# Altium footprint library ultrazohm_digital_voltage_3U_1vxx.PcbLib: 16 footprints
Each footprint in its own frame and in the unit in brackets; x right, y up, seen from the top. Pads: shape width x height; smd on the part's side, far side on the other; paste and mask are expansions set on the pad; w line width, h text height; cw(c..) or ccw(c..) is an arc to the next point about the centre after c.
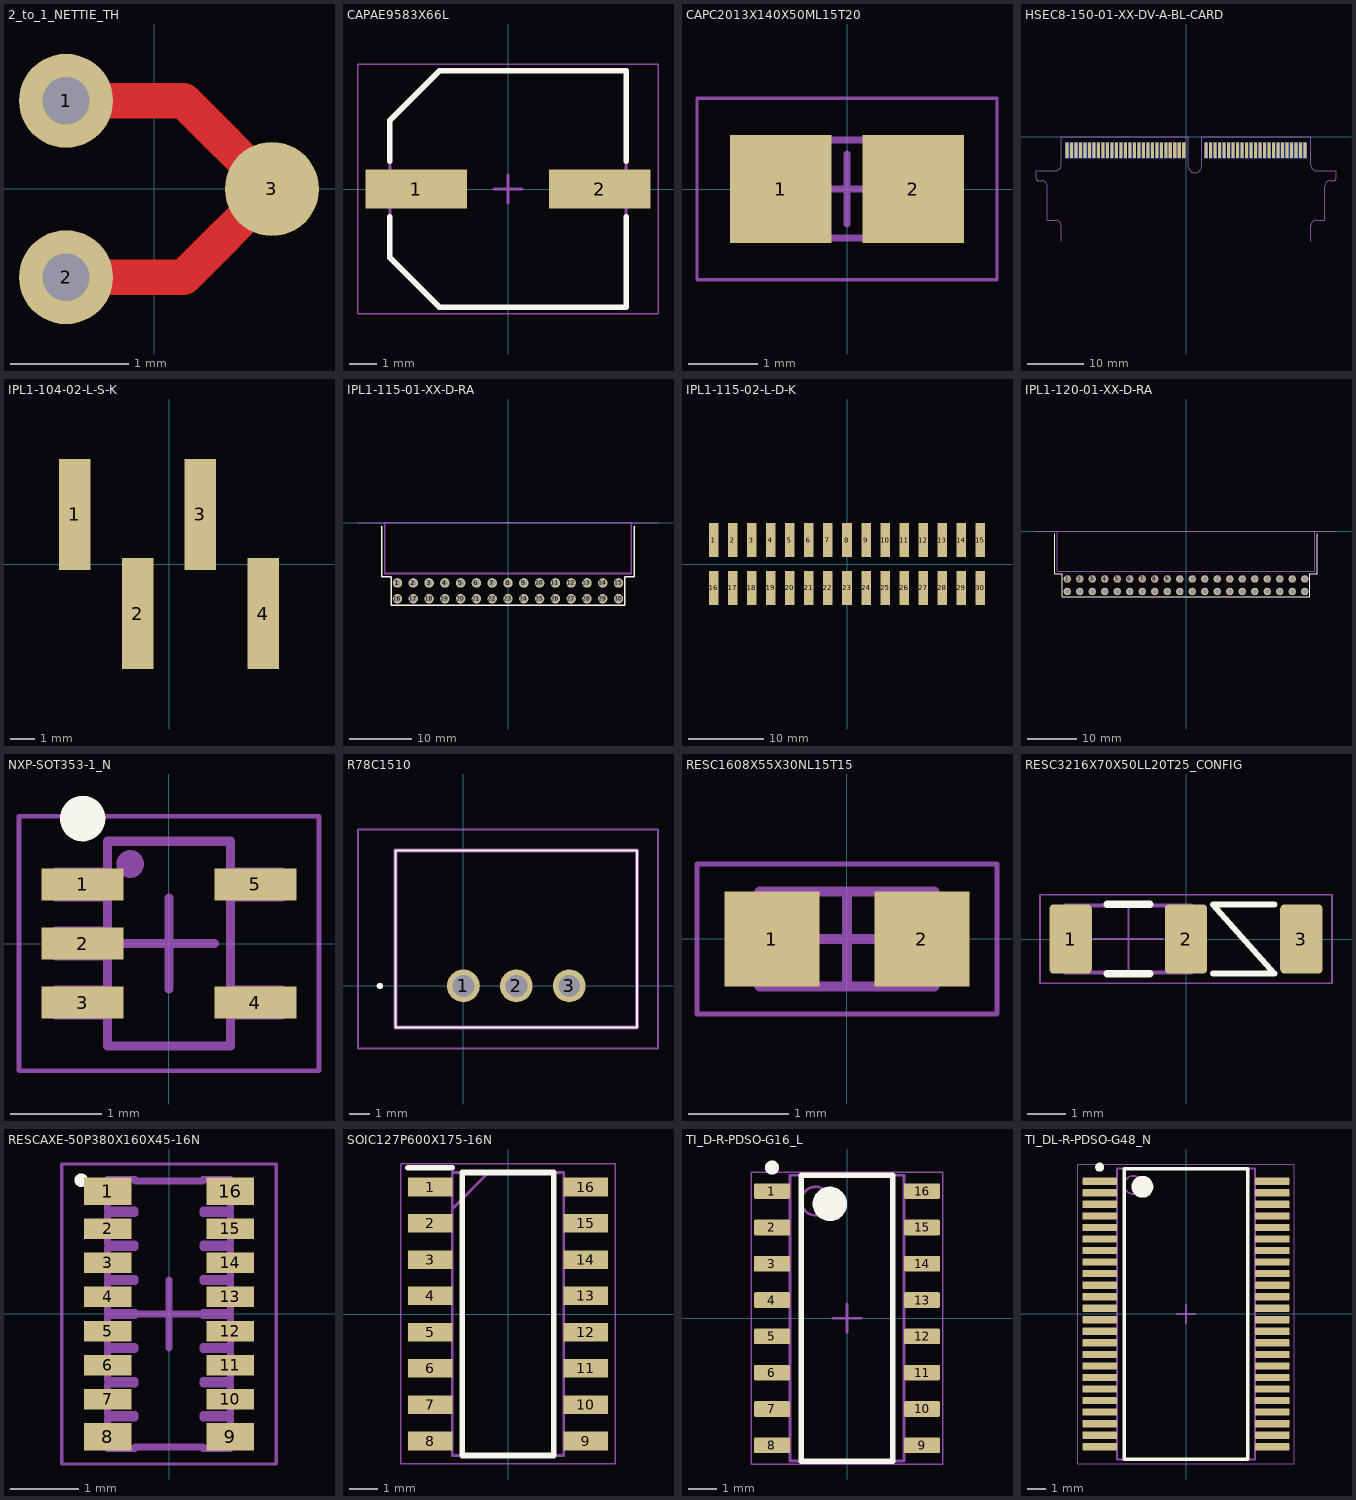
[diagram p0: the footprints below, top view; thin cyan lines are the x and y axes]

## 2_to_1_NETTIE_TH [mm]
pads (3):
  round 0.8 hole 0.4 paste+0: 1(-0.75,0.75) 2(-0.75,-0.75)
  round 0.8 smd paste+0: 3(1,0)
Top Layer:
  lines w0.3: -0.75,-0.75 0.25,-0.75 1,0 0.25,0.75 -0.75,0.75

## CAPAE9583X66L [mm]
pads (2):
  rect 3.65x1.4 smd: 1(-3.3,0) 2(3.3,0)
Top Overlay:
  lines w0.2: -4.25,-1 -4.25,-2.475 -2.475,-4.25 4.25,-4.25 4.25,-1 ; -4.25,1 -4.25,2.475 -2.475,4.25 4.25,4.25 4.25,1
Mechanical 13:
  lines w0.1: -4.25,-2.475 -2.475,-4.25 4.25,-4.25 4.25,4.25 -2.475,4.25 -4.25,2.475 -4.25,-2.475
Mechanical 15:
  lines w0.05: -5.4,-4.5 -5.4,4.5 5.4,4.5 5.4,-4.5 -5.4,-4.5
  lines w0.1: -0.5,0 0.5,0 ; 0,-0.5 0,0.5
3D body "CAPAE9583X66L.step": height 6.6, standoff -1.4, extent -4.75,-4.25 4.75,4.25

## CAPC2013X140X50ML15T20 [mm]
pads (2):
  rect 1.45x1.55 smd: 1(-0.95,0) 2(0.95,0)
Mechanical 13:
  lines w0.1: -1.075,-0.7 -1.075,0.7 1.075,0.7 1.075,-0.7 -1.075,-0.7
Mechanical 15:
  lines w0.05: -2.15,-1.3 -2.15,1.3 2.15,1.3 2.15,-1.3 -2.15,-1.3
  lines w0.1: -0.5,0 0.5,0 ; 0,-0.5 0,0.5
3D body: height 1.4, standoff 0, extent -0.575,-0.7 0.575,0.7
3D body: height 1.4, standoff 0, extent -1.075,-0.7 -0.575,0.7
3D body: height 1.4, standoff 0, extent 0.575,-0.7 1.075,0.7

## HSEC8-150-01-XX-DV-A-BL-CARD [mm]
pads (100):
  rect 0.55x2.8 smd far side mask+0.05: 1(-21.2,-2.4) 3(-20.4,-2.4) 5(-19.6,-2.4) 7(-18.8,-2.4) 9(-18,-2.4) 11(-17.2,-2.4) 13(-16.4,-2.4) 15(-15.6,-2.4) 17(-14.8,-2.4) 19(-14,-2.4) 21(-13.2,-2.4) 23(-12.4,-2.4) 25(-11.6,-2.4) 27(-10.8,-2.4) 29(-10,-2.4) 31(-9.2,-2.4) 33(-8.4,-2.4) 35(-7.6,-2.4) 37(-6.8,-2.4) 39(-6,-2.4) 41(-5.2,-2.4) 43(-4.4,-2.4) 45(-3.6,-2.4) 47(-2.8,-2.4) 49(-2,-2.4) 51(-1.2,-2.4) 53(-0.4,-2.4) 55(3.6,-2.4) 57(4.4,-2.4) 59(5.2,-2.4) 61(6,-2.4) 63(6.8,-2.4) 65(7.6,-2.4) 67(8.4,-2.4) 69(9.2,-2.4) 71(10,-2.4) 73(10.8,-2.4) 75(11.6,-2.4) 77(12.4,-2.4) 79(13.2,-2.4) 81(14,-2.4) 83(14.8,-2.4) 85(15.6,-2.4) 87(16.4,-2.4) 89(17.2,-2.4) 91(18,-2.4) 93(18.8,-2.4) 95(19.6,-2.4) 97(20.4,-2.4) 99(21.2,-2.4)
  rect 0.55x2.8 smd mask+0.05: 2(-21.2,-2.4) 4(-20.4,-2.4) 6(-19.6,-2.4) 8(-18.8,-2.4) 10(-18,-2.4) 12(-17.2,-2.4) 14(-16.4,-2.4) 16(-15.6,-2.4) 18(-14.8,-2.4) 20(-14,-2.4) 22(-13.2,-2.4) 24(-12.4,-2.4) 26(-11.6,-2.4) 28(-10.8,-2.4) 30(-10,-2.4) 32(-9.2,-2.4) 34(-8.4,-2.4) 36(-7.6,-2.4) 38(-6.8,-2.4) 40(-6,-2.4) 42(-5.2,-2.4) 44(-4.4,-2.4) 46(-3.6,-2.4) 48(-2.8,-2.4) 50(-2,-2.4) 52(-1.2,-2.4) 54(-0.4,-2.4) 56(3.6,-2.4) 58(4.4,-2.4) 60(5.2,-2.4) 62(6,-2.4) 64(6.8,-2.4) 66(7.6,-2.4) 68(8.4,-2.4) 70(9.2,-2.4) 72(10,-2.4) 74(10.8,-2.4) 76(11.6,-2.4) 78(12.4,-2.4) 80(13.2,-2.4) 82(14,-2.4) 84(14.8,-2.4) 86(15.6,-2.4) 88(16.4,-2.4) 90(17.2,-2.4) 92(18,-2.4) 94(18.8,-2.4) 96(19.6,-2.4) 98(20.4,-2.4) 100(21.2,-2.4)
Mechanical 16:
  lines w0.025: -24.725,-8.78 ccw(c-25.725,-8.78) -25.725,-7.78 -26.325,-7.78 cw(c-26.325,-7.38) -26.725,-7.38 -26.725,-6 -23.225,-6 ccw(c-23.225,-5) -22.225,-5 -22.225,-0.779 -22.225,0 0.4,0 0.4,-0.779 0.4,-5.2 ; -24.725,-8.78 -24.725,-14.84 -23.225,-14.84 cw(c-23.225,-15.84) -22.225,-15.84 -22.225,-18.566 ; 0.4,-5.2 ccw(c1.6,-5.2) 2.8,-5.2 ; 2.8,-5.2 2.8,-0.779 2.8,0 22.225,0 22.225,-0.779 22.225,-5 ccw(c23.225,-5) 23.225,-6 26.725,-6 26.725,-7.38 cw(c26.325,-7.38) 26.325,-7.78 25.725,-7.78 ccw(c25.725,-8.78) 24.725,-8.78 24.725,-14.84 23.225,-14.84 ccw(c23.225,-15.84) 22.225,-15.84 22.225,-18.566

## IPL1-104-02-L-S-K [mm]
pads (4):
  rect 1.27x4.5 smd: 1(-3.81,2) 2(-1.27,-2) 3(1.27,2) 4(3.81,-2)
3D body "IPL1-104-02-L-S-K.stp": height 8.13, standoff -0.64, extent -5.842,-3.569 5.842,3.747

## IPL1-115-01-XX-D-RA [mil]
pads (30):
  round 60 hole 40 mask+3: 1(-700,-380) 2(-600,-380) 3(-500,-380) 4(-400,-380) 5(-300,-380) 6(-200,-380) 7(-100,-380) 8(0,-380) 9(100,-380) 10(200,-380) 11(300,-380) 12(400,-380) 13(500,-380) 14(600,-380) 15(700,-380) 16(-700,-480) 17(-600,-480) 18(-500,-480) 19(-400,-480) 20(-300,-480) 21(-200,-480) 22(-100,-480) 23(0,-480) 24(100,-480) 25(200,-480) 26(300,-480) 27(400,-480) 28(500,-480) 29(600,-480) 30(700,-480)
Top Overlay:
  lines w10: -800,-20 -800,-340 -740,-340 -740,-520 740,-520 740,-340 800,-340 800,-20
Mechanical 1:
  lines w10: -780,-320 780,-320 780,0 -780,0 -780,-320
  text "J1" at -19.57,-170 h30
Mechanical 16:
  lines w0.1: -950,0 950,0

## IPL1-115-02-L-D-K [mm]
pads (30):
  rect 1.27x4.5 smd: 1(-17.78,3.2) 2(-15.24,3.2) 3(-12.7,3.2) 4(-10.16,3.2) 5(-7.62,3.2) 6(-5.08,3.2) 7(-2.54,3.2) 8(0,3.2) 9(2.54,3.2) 10(5.08,3.2) 11(7.62,3.2) 12(10.16,3.2) 13(12.7,3.2) 14(15.24,3.2) 15(17.78,3.2) 16(-17.78,-3.2) 17(-15.24,-3.2) 18(-12.7,-3.2) 19(-10.16,-3.2) 20(-7.62,-3.2) 21(-5.08,-3.2) 22(-2.54,-3.2) 23(0,-3.2) 24(2.54,-3.2) 25(5.08,-3.2) 26(7.62,-3.2) 27(10.16,-3.2) 28(12.7,-3.2) 29(15.24,-3.2) 30(17.78,-3.2)
3D body "IPL1-115-02-L-D-K.stp": height 8.13, standoff -0.64, extent -19.812,-4.788 19.812,4.788

## IPL1-120-01-XX-D-RA [mil]
pads (40):
  round 60 hole 40 mask+3: 1(-950,-380) 2(-850,-380) 3(-750,-380) 4(-650,-380) 5(-550,-380) 6(-450,-380) 7(-350,-380) 8(-250,-380) 9(-150,-380) 10(-50,-380) 11(50,-380) 12(150,-380) 13(250,-380) 14(350,-380) 15(450,-380) 16(550,-380) 17(650,-380) 18(750,-380) 19(850,-380) 20(950,-380) 21(-950,-480) 22(-850,-480) 23(-750,-480) 24(-650,-480) 25(-550,-480) 26(-450,-480) 27(-350,-480) 28(-250,-480) 29(-150,-480) 30(-50,-480) 31(50,-480) 32(150,-480) 33(250,-480) 34(350,-480) 35(450,-480) 36(550,-480) 37(650,-480) 38(750,-480) 39(850,-480) 40(950,-480)
Top Overlay:
  lines w10: -1050,-20 -1050,-340 -990,-340 -990,-520 990,-520 990,-340 1050,-340 1050,-20
Mechanical 1:
  lines w10: -1030,-320 1030,-320 1030,0 -1030,0 -1030,-320
  text "J1" at -19.57,-170 h30
Mechanical 16:
  lines w0.1: -1200,0 1200,0

## NXP-SOT353-1_N [mm]
pads (5):
  rect 0.9x0.35 smd: 1(-0.95,0.65) 2(-0.95,0) 3(-0.95,-0.65) 4(0.95,-0.65) 5(0.95,0.65)
Top Overlay:
  circle w0.25: c-0.95,1.375 r0.125
Mechanical 5:
  circle w0.152: c-0.426,0.875 r0.076
  lines w0.05: -0.675,-0.812 -1.25,-0.812 -1.25,-0.488 -0.675,-0.488 ; -0.675,-0.162 -1.25,-0.162 -1.25,0.162 -0.675,0.162 ; -0.675,0.487 -1.25,0.487 -1.25,0.813 -0.675,0.813 ; 0.675,-0.812 1.25,-0.812 1.25,-0.488 0.675,-0.488 ; 0.675,0.487 1.25,0.487 1.25,0.813 0.675,0.813
  lines w0.1: -0.675,-1.125 0.675,-1.125 0.675,1.125 -0.675,1.125 -0.675,-1.125
  text ".Designator" at 0.4,-0.9 h0.76
Mechanical 15:
  lines w0.05: -1.65,-1.4 1.65,-1.4 1.65,1.4 -1.65,1.4 -1.65,-1.4
  lines w0.1: -0.5,0 0.5,0 ; 0,-0.5 0,0.5
3D body: height 1.1, standoff 0, extent -0.675,-1.125 0.675,1.125

## R78C1510 [mm]
pads (3):
  round 1.575 hole 1.05: 1(0,0) 2(2.54,0) 3(5.08,0)
Top Overlay:
  lines w0.1: -3.26,-2 8.34,-2 8.34,6.5 -3.26,6.5 -3.26,-2
  lines w0.2: -4.06,0 cw(c-4.01,0) -3.96,0 cw(c-4.01,0) -4.06,0
Mechanical 13:
  lines w0.2: -3.26,-2 8.34,-2 8.34,6.5 -3.26,6.5 -3.26,-2
Mechanical 15:
  lines w0.1: -5.06,-3 9.34,-3 9.34,7.5 -5.06,7.5 -5.06,-3
3D body "R-78C15-1.0.stp": height 10.9, standoff -5, extent -3.26,-2 8.34,6.5

## RESC1608X55X30NL15T15 [mm]
pads (2):
  rect 0.95x0.95 smd: 1(-0.75,0) 2(0.75,0)
Mechanical 13:
  lines w0.1: -0.875,-0.475 -0.875,0.475 0.875,0.475 0.875,-0.475 -0.875,-0.475
Mechanical 15:
  lines w0.05: -1.5,-0.75 -1.5,0.75 1.5,0.75 1.5,-0.75 -1.5,-0.75
  lines w0.1: -0.475,0 0.475,0 ; 0,-0.475 0,0.475
3D body "RESC1608X06N.step": height 0.55, standoff 0, extent -0.875,-0.475 0.875,0.475

## RESC3216X70X50LL20T25_CONFIG [mm]
pads (3):
  rrect20% 1.1x1.8 smd: 1(-3,0) 2(0,0) 3(3,0)
Top Overlay:
  lines w0.152: 0.7,-0.9 2.3,-0.9 0.7,0.9 2.3,0.9
  lines w0.2: -2.05,-0.9 -0.95,-0.9 ; -2.05,0.9 -0.95,0.9
Mechanical 5:
  lines w0.1: -2.6,-0.875 -2.6,0.875 ; -0.4,-0.875 -0.4,0.875 ; -3.15,-0.875 -1.5,-0.875 0.15,-0.875 0.15,0.875 -3.15,0.875 -3.15,-0.875
  text ".Designator" at -2.3,-0.4 h0.76
Mechanical 15:
  lines w0.05: -2.4,0 -1.5,0 ; -1.5,-0.9 -1.5,0 ; -1.5,0.9 -1.5,0 ; -0.6,0 -1.5,0 ; -3.8,-1.15 -1.5,-1.15 3.8,-1.15 3.8,1.15 -3.8,1.15 -3.8,-1.15
3D body: height 2.8, standoff -2.8, extent -1.537,1.357 -1.537,1.357
3D body "RESC3216X06N.STEP": height 0.55, standoff 0, extent -3.1,-0.8 0.1,0.8

## RESCAXE-50P380X160X45-16N [mm]
pads (16):
  rect 0.7x0.4 smd mask+0.05: 1(-0.9,1.8) 8(-0.9,-1.8) 9(0.9,-1.8) 16(0.9,1.8)
  rect 0.7x0.3 smd mask+0.05: 2(-0.9,1.25) 3(-0.9,0.75) 4(-0.9,0.25) 5(-0.9,-0.25) 6(-0.9,-0.75) 7(-0.9,-1.25) 10(0.9,-1.25) 11(0.9,-0.75) 12(0.9,-0.25) 13(0.9,0.25) 14(0.9,0.75) 15(0.9,1.25)
Top Overlay:
  circle w0.1: c-1.287,1.963 r0.05
Mechanical 13:
  lines w0.1: -0.9,-1.975 -0.9,-1.525 -0.5,-1.525 -0.5,-1.475 -0.9,-1.475 -0.9,-1.025 -0.5,-1.025 -0.5,-0.975 -0.9,-0.975 -0.9,-0.525 -0.5,-0.525 -0.5,-0.475 -0.9,-0.475 -0.9,-0.025 -0.5,-0.025 -0.5,0.025 -0.9,0.025 -0.9,0.475 -0.5,0.475 -0.5,0.525 -0.9,0.525 -0.9,0.975 -0.5,0.975 -0.5,1.025 -0.9,1.025 -0.9,1.475 -0.5,1.475 -0.5,1.525 -0.9,1.525 -0.9,1.975 -0.5,1.975 -0.5,1.95 0.5,1.95 0.5,1.975 0.9,1.975 0.9,1.525 0.5,1.525 0.5,1.475 0.9,1.475 0.9,1.025 0.5,1.025 0.5,0.975 0.9,0.975 0.9,0.525 0.5,0.525 0.5,0.475 0.9,0.475 0.9,0.025 0.5,0.025 0.5,-0.025 0.9,-0.025 0.9,-0.475 0.5,-0.475 0.5,-0.525 0.9,-0.525 0.9,-0.975 0.5,-0.975 0.5,-1.025 0.9,-1.025 0.9,-1.475 0.5,-1.475 0.5,-1.525 0.9,-1.525 0.9,-1.975 0.5,-1.975 0.5,-1.95 -0.5,-1.95 -0.5,-1.975 -0.9,-1.975
Mechanical 15:
  lines w0.05: -1.57,-2.2 -1.57,2.2 1.57,2.2 1.57,-2.2 -1.57,-2.2
  lines w0.1: -0.5,0 0.5,0 ; 0,-0.5 0,0.5
3D body "CAC-50P380X160-16N.step": height 0.55, standoff 0, extent -0.9,-1.95 0.9,1.95

## SOIC127P600X175-16N [mm]
pads (16):
  rect 1.55x0.65 smd: 1(-2.725,4.445) 2(-2.725,3.175) 3(-2.725,1.905) 4(-2.725,0.635) 5(-2.725,-0.635) 6(-2.725,-1.905) 7(-2.725,-3.175) 8(-2.725,-4.445) 9(2.725,-4.445) 10(2.725,-3.175) 11(2.725,-1.905) 12(2.725,-0.635) 13(2.725,0.635) 14(2.725,1.905) 15(2.725,3.175) 16(2.725,4.445)
Top Overlay:
  lines w0.2: -3.5,5.12 -1.95,5.12 ; -1.6,-4.95 1.6,-4.95 1.6,4.95 -1.6,4.95 -1.6,-4.95
Mechanical 13:
  lines w0.1: -1.95,3.68 -0.68,4.95 ; -1.95,-4.95 1.95,-4.95 1.95,4.95 -1.95,4.95 -1.95,-4.95
Mechanical 15:
  lines w0.05: -3.75,-5.25 3.75,-5.25 3.75,5.25 -3.75,5.25 -3.75,-5.25
3D body "MC14504BDR2G.stp": height 1.75, standoff 0, extent -3,-4.95 3,4.95

## TI_D-R-PDSO-G16_L [mm]
pads (16):
  rrect18% 1.25x0.55 smd: 1(-2.625,4.445) 2(-2.625,3.175) 3(-2.625,1.905) 4(-2.625,0.635) 5(-2.625,-0.635) 6(-2.625,-1.905) 7(-2.625,-3.175) 8(-2.625,-4.445) 9(2.625,-4.445) 10(2.625,-3.175) 11(2.625,-1.905) 12(2.625,-0.635) 13(2.625,0.635) 14(2.625,1.905) 15(2.625,3.175) 16(2.625,4.445)
Top Overlay:
  circle w0.25: c-2.625,5.27 r0.125
  circle w0.6: c-0.6,4 r0.3
  lines w0.2: -1.6,-5 -1.6,5 1.6,5 1.6,-5 -1.6,-5
Mechanical 13:
  circle w0.1: c-1.1,4.1 r0.5
  lines w0.1: -2,-5 -2,5 2,5 2,-5 -2,-5
Mechanical 15:
  lines w0.05: -3.35,-5.1 -3.35,5.1 3.35,5.1 3.35,-5.1 -3.35,-5.1
  lines w0.1: -0.5,0 0.5,0 ; 0,-0.5 0,0.5
3D body "SOIC-16akaD0016AakaM16A.stp": height 1.59, standoff -0.01, extent -2.997,-4.953 2.997,4.953

## TI_DL-R-PDSO-G48_N [mm]
pads (48):
  rrect25% 1.9x0.4 smd: 1(-4.75,7.302) 2(-4.75,6.667) 3(-4.75,6.032) 4(-4.75,5.397) 5(-4.75,4.762) 6(-4.75,4.127) 7(-4.75,3.492) 8(-4.75,2.857) 9(-4.75,2.222) 10(-4.75,1.587) 11(-4.75,0.952) 12(-4.75,0.317) 13(-4.75,-0.318) 14(-4.75,-0.953) 15(-4.75,-1.588) 16(-4.75,-2.223) 17(-4.75,-2.858) 18(-4.75,-3.493) 19(-4.75,-4.128) 20(-4.75,-4.763) 21(-4.75,-5.398) 22(-4.75,-6.033) 23(-4.75,-6.668) 24(-4.75,-7.303) 25(4.75,-7.303) 26(4.75,-6.668) 27(4.75,-6.033) 28(4.75,-5.398) 29(4.75,-4.763) 30(4.75,-4.128) 31(4.75,-3.493) 32(4.75,-2.858) 33(4.75,-2.223) 34(4.75,-1.588) 35(4.75,-0.953) 36(4.75,-0.318) 37(4.75,0.317) 38(4.75,0.952) 39(4.75,1.587) 40(4.75,2.222) 41(4.75,2.857) 42(4.75,3.492) 43(4.75,4.127) 44(4.75,4.762) 45(4.75,5.397) 46(4.75,6.032) 47(4.75,6.667) 48(4.75,7.302)
Top Overlay:
  circle w0.25: c-4.75,8.077 r0.125
  circle w0.6: c-2.4,7 r0.3
  lines w0.2: -3.4,-8 -3.4,8 3.4,8 3.4,-8 -3.4,-8
Mechanical 1:
  text ".Designator" at -4.445,8.509 h0.9
Mechanical 13:
  circle w0.1: c-2.9,7.1 r0.5
  lines w0.1: -3.8,-8 -3.8,8 3.8,8 3.8,-8 -3.8,-8
Mechanical 15:
  lines w0.05: -5.95,-8.25 -5.95,8.25 5.95,8.25 5.95,-8.25 -5.95,-8.25
  lines w0.1: -0.5,0 0.5,0 ; 0,-0.5 0,0.5
3D body "DL0048AakaMS48A.stp": height 2.6, standoff 0, extent -5.176,-7.937 5.176,7.937